# Altium footprint library CustomFootprints.PcbLib: 67 footprints (part 4 of 5)
Each footprint in its own frame and in the unit in brackets; x right, y up, seen from the top. Pads: shape width x height; smd on the part's side, far side on the other; paste and mask are expansions set on the pad; w line width, h text height; cw(c..) or ccw(c..) is an arc to the next point about the centre after c.
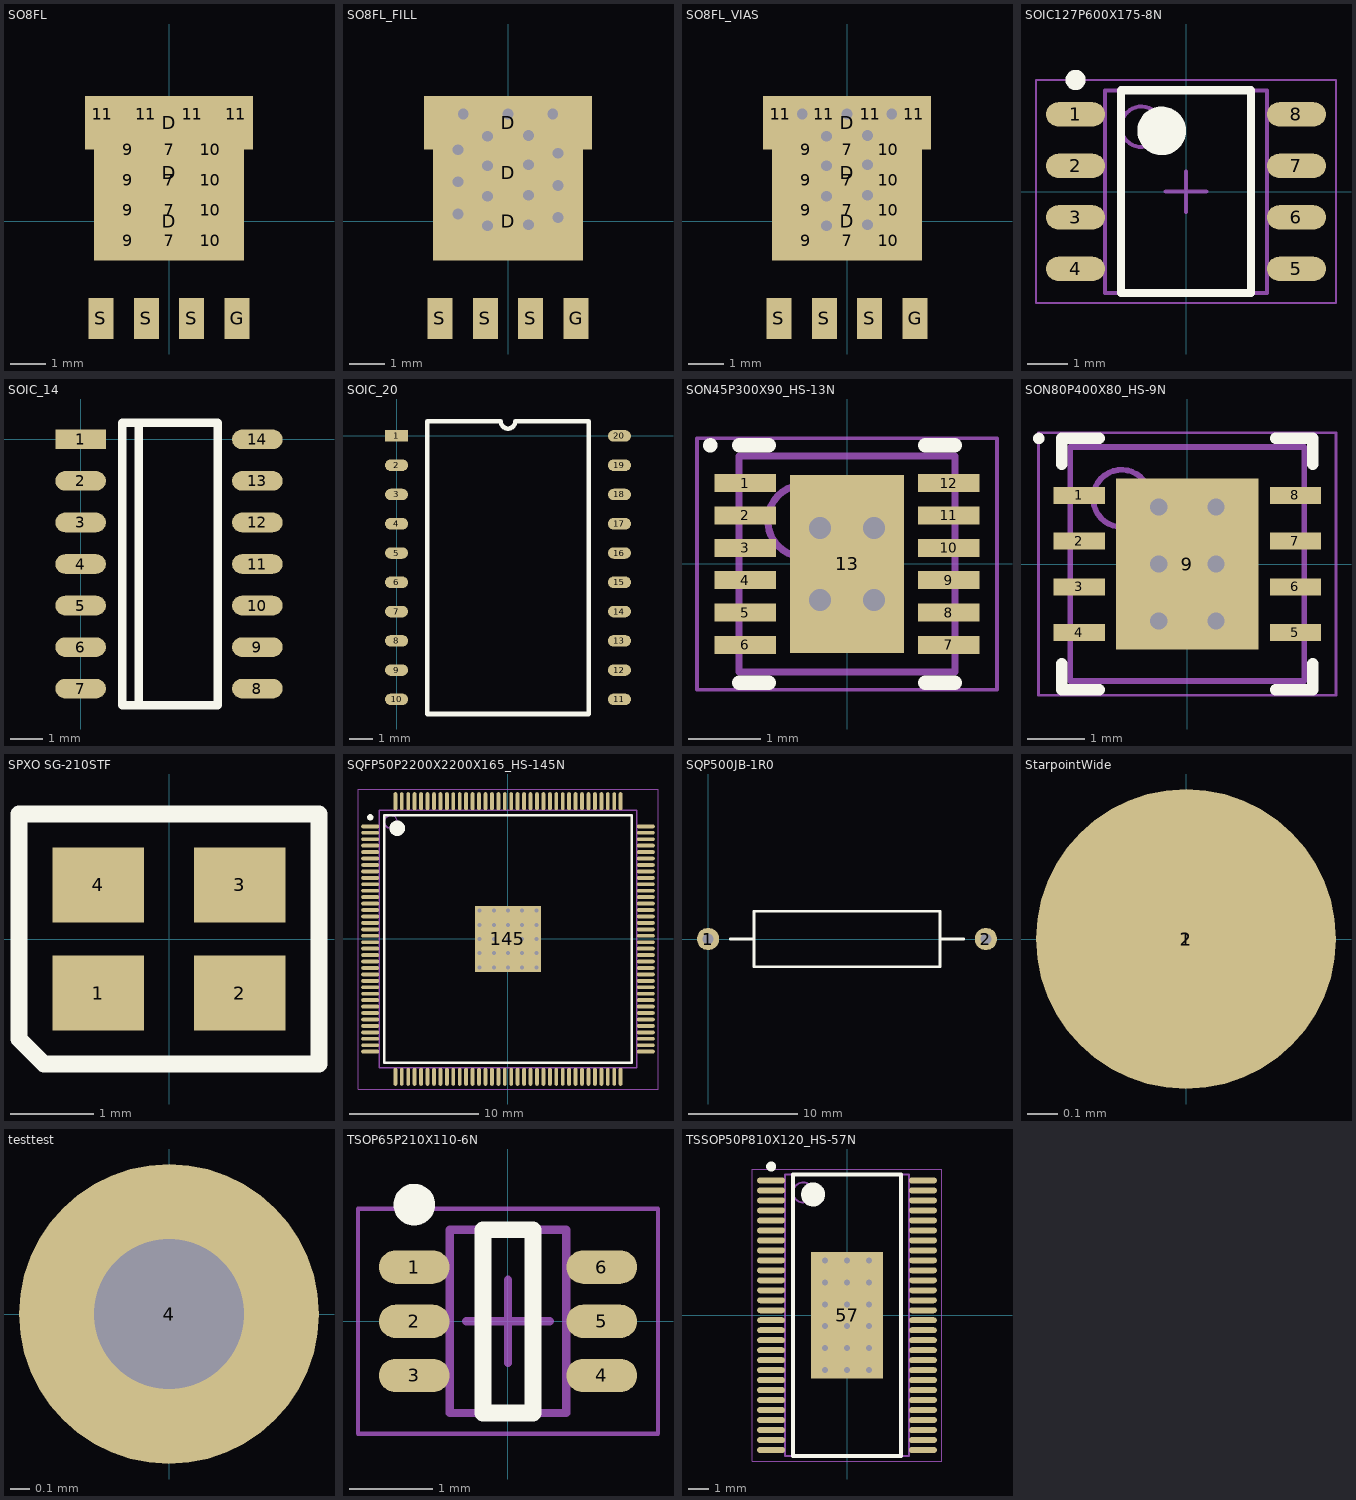
[diagram p3: the footprints below, top view; thin cyan lines are the x and y axes]

## SO8FL [mm] "DFN5 5x6, 1.27P  (SO-8FL)  CASE 488AA"
height 1
pads (23):
  rect 0.9x0.6 on Top Paste: 7(0,-0.55) 7(0,0.3) 7(0,1.15) 7(0,2) 9(-1.15,-0.55) 9(-1.15,0.3) 9(-1.15,1.15) 9(-1.15,2) 10(1.15,-0.55) 10(1.15,0.3) 10(1.15,1.15) 10(1.15,2)
  rect 0.6x0.9 on Top Paste: 11(-1.875,3) 11(-0.65,3) 11(0.65,3) 11(1.875,3)
  rect 4.2x2.2 smd paste-10 mask+0.075: D(0,0) D(0,1.35)
  rect 4.7x1.5 smd paste-10 mask+0.075: D(0,2.75)
  rect 0.7x1.15 smd paste-0.05 mask+0.075: G(1.905,-2.725) S(-1.905,-2.725) S(-0.635,-2.725) S(0.635,-2.725)
3D body "User Library-DFN5x6_SO8FL.STEP": height 1.13, standoff 0, extent -2.575,-2.95 2.575,3.2

## SO8FL_FILL [mm] "DFN5 5x6, 1.27P  (SO-8FL)  CASE 488AA. Full solder paste"
height 1
pads (7):
  rect 4.2x2.2 smd paste-10 mask+0.075: D(0,0) D(0,1.35)
  rect 4.7x1.5 smd paste-10 mask+0.075: D(0,2.75)
  rect 0.7x1.15 smd paste-0.05 mask+0.075: G(1.905,-2.725) S(-1.905,-2.725) S(-0.635,-2.725) S(0.635,-2.725)
via -0.575,1.55 diameter 0.8 hole 0.3
via 0.575,1.575 diameter 0.8 hole 0.3
via -0.575,0.7 diameter 0.8 hole 0.3
via 0.575,-0.1 diameter 0.8 hole 0.3
via -0.575,-0.125 diameter 0.8 hole 0.3
via 0.575,2.4 diameter 0.8 hole 0.3
via -0.575,2.375 diameter 0.8 hole 0.3
via -1.25,3 diameter 0.8 hole 0.3
via 0,3 diameter 0.8 hole 0.3
via 1.25,3 diameter 0.8 hole 0.3
via 0.575,0.725 diameter 0.8 hole 0.3
via 1.4,1.9 diameter 0.8 hole 0.3
via 1.4,1 diameter 0.8 hole 0.3
via 1.4,0.1 diameter 0.8 hole 0.3
via -1.4,2 diameter 0.8 hole 0.3
via -1.4,1.1 diameter 0.8 hole 0.3
via -1.4,0.2 diameter 0.8 hole 0.3
Top Paste:
  region: -2.2,2.1 -2,2.1 -2,-1 2,-1 2,2.1 2.2,2.1 2.2,3.4 -2.2,3.4
Bottom Solder:
  region: -1,-0.3 0.9,-0.3 1.4,0.2 1.4,3 -1.5,3 -1.5,1 -1.5,0.2
3D body "User Library-DFN5x6_SO8FL.STEP": height 1.13, standoff 0, extent -2.575,-2.95 2.575,3.2

## SO8FL_VIAS [mm] "DFN5 5x6, 1.27P  (SO-8FL)  CASE 488AA"
height 1
pads (23):
  rect 0.9x0.6 on Top Paste: 7(0,-0.55) 7(0,0.3) 7(0,1.15) 7(0,2) 9(-1.15,-0.55) 9(-1.15,0.3) 9(-1.15,1.15) 9(-1.15,2) 10(1.15,-0.55) 10(1.15,0.3) 10(1.15,1.15) 10(1.15,2)
  rect 0.6x0.9 on Top Paste: 11(-1.875,3) 11(-0.65,3) 11(0.65,3) 11(1.875,3)
  rect 4.2x2.2 smd paste-10 mask+0.075: D(0,0) D(0,1.35)
  rect 4.7x1.5 smd paste-10 mask+0.075: D(0,2.75)
  rect 0.7x1.15 smd paste-0.05 mask+0.075: G(1.905,-2.725) S(-1.905,-2.725) S(-0.635,-2.725) S(0.635,-2.725)
via 1.25,3 diameter 0.7 hole 0.3
via 0,3 diameter 0.7 hole 0.3
via -1.25,3 diameter 0.7 hole 0.3
via -0.575,2.375 diameter 0.7 hole 0.3
via 0.575,2.4 diameter 0.7 hole 0.3
via -0.575,-0.125 diameter 0.7 hole 0.3
via 0.575,-0.1 diameter 0.7 hole 0.3
via -0.575,0.7 diameter 0.7 hole 0.3
via 0.575,0.725 diameter 0.7 hole 0.3
via 0.575,1.575 diameter 0.7 hole 0.3
via -0.575,1.55 diameter 0.7 hole 0.3
3D body "User Library-DFN5x6_SO8FL.STEP": height 1.13, standoff 0, extent -2.575,-2.95 2.575,3.2

## SOIC127P600X175-8N [mm] "SOIC, 8-Leads, Body 4.90x3.90mm, Pitch 1.27mm, IPC Medium Density"
height 1.75
pads (8):
  oval 1.45x0.6 smd: 1(-2.725,1.905) 2(-2.725,0.635) 3(-2.725,-0.635) 4(-2.725,-1.905) 5(2.725,-1.905) 6(2.725,-0.635) 7(2.725,0.635) 8(2.725,1.905)
Top Overlay:
  circle w0.6: c-0.6,1.5 r0.3
  circle w0.25: c-2.725,2.755 r0.125
  lines w0.2: -1.6,-2.5 1.6,-2.5 1.6,2.5 -1.6,2.5 -1.6,-2.5
Mechanical 13:
  circle w0.1: c-1.1,1.6 r0.5
  lines w0.1: -2,-2.5 2,-2.5 2,2.5 -2,2.5 -2,-2.5
Mechanical 15:
  lines w0.05: -3.7,-2.75 3.7,-2.75 3.7,2.75 -3.7,2.75 -3.7,-2.75
  lines w0.1: -0.5,0 0.5,0 ; 0,-0.5 0,0.5
3D body: height 1.75, standoff 0.1, extent -2,-2.5 2,2.5

## SOIC_14 [mm]
pads (14):
  rect 1.55x0.6 smd: 1(0,0)
  oval 1.55x0.6 smd: 2(0,-1.27) 3(0,-2.54) 4(0,-3.81) 5(0,-5.08) 6(0,-6.35) 7(0,-7.62) 8(5.4,-7.62) 9(5.4,-6.35) 10(5.4,-5.08) 11(5.4,-3.81) 12(5.4,-2.54) 13(5.4,-1.27) 14(5.4,0)
Top Overlay:
  lines w0.254: 2.032,-8.128 1.27,-8.128 1.27,0.508 1.778,0.508 ; 1.778,0.508 4.191,0.508 4.191,-8.128 1.778,-8.128 1.778,0.508

## SOIC_20 [mm]
pads (20):
  rect 1x0.5 smd: 1(0,0)
  oval 1x0.5 smd: 2(0,-1.27) 3(0,-2.54) 4(0,-3.81) 5(0,-5.08) 6(0,-6.35) 7(0,-7.62) 8(0,-8.89) 9(0,-10.16) 10(0,-11.43) 11(9.672,-11.43) 12(9.672,-10.16) 13(9.672,-8.89) 14(9.672,-7.62) 15(9.672,-6.35) 16(9.672,-5.08) 17(9.672,-3.81) 18(9.672,-2.54) 19(9.672,-1.27) 20(9.672,0)
Top Overlay:
  lines w0.2: 1.335,-12.065 1.335,0.635 4.518,0.635 ccw(c4.836,0.635) 5.153,0.635 8.337,0.635 8.337,-12.065 1.335,-12.065

## SON45P300X90_HS-13N [mm] "SON, 12-Leads, Body 3.00x3.00mm, Pitch 0.45mm, Thermal Pad 2.48x1.58mm, IPC Medium Density"
height 0.9
pads (13):
  rect 0.85x0.25 smd mask+0: 1(-1.415,1.125) 2(-1.415,0.675) 3(-1.415,0.225) 4(-1.415,-0.225) 5(-1.415,-0.675) 6(-1.415,-1.125) 7(1.415,-1.125) 8(1.415,-0.675) 9(1.415,-0.225) 10(1.415,0.225) 11(1.415,0.675) 12(1.415,1.125)
  rect 1.58x2.48 smd paste-0.79 mask+0: 13(0,0)
via -0.375,0.5 diameter 0.6 hole 0.3
via 0.375,-0.5 diameter 0.6 hole 0.3
via -0.375,-0.5 diameter 0.6 hole 0.3
via 0.375,0.5 diameter 0.6 hole 0.3
Top Overlay:
  circle w0.1: c-1.9,1.65 r0.05
  lines w0.2: -1.5,-1.65 -1.09,-1.65 ; -1.5,1.65 -1.09,1.65 ; 1.09,-1.65 1.5,-1.65 ; 1.09,1.65 1.5,1.65
Top Paste:
  rectangle: -0.625,-1.225 0.625,1.225
Mechanical 13:
  circle w0.1: c-0.6,0.6 r0.5
  lines w0.1: -1.5,-1.5 1.5,-1.5 1.5,1.5 -1.5,1.5 -1.5,-1.5
Mechanical 15:
  lines w0.05: -2.085,-1.75 2.085,-1.75 2.085,1.75 -2.085,1.75 -2.085,-1.75
  lines w0.1: -0.5,0 0.5,0 ; 0,-0.5 0,0.5
3D body: height 0.9, standoff 0, extent -1.5,-1.5 1.5,1.5

## SON80P400X80_HS-9N [mm] "SON, 8-Leads, Body 4.00x4.00mm, Pitch 0.80mm, Thermal Pad 3.00x2.49mm, IPC Medium Density"
height 0.8
pads (9):
  rect 0.9x0.3 smd mask+0: 1(-1.895,1.2) 2(-1.895,0.4) 3(-1.895,-0.4) 4(-1.895,-1.2) 5(1.895,-1.2) 6(1.895,-0.4) 7(1.895,0.4) 8(1.895,1.2)
  rect 2.49x3 smd paste-1.245 mask+0: 9(0,0)
via 0.5,1 diameter 0.7 hole 0.3
via -0.5,1 diameter 0.7 hole 0.3
via -0.5,0 diameter 0.7 hole 0.3
via 0.5,0 diameter 0.7 hole 0.3
via 0.5,-1 diameter 0.7 hole 0.3
via -0.5,-1 diameter 0.7 hole 0.3
Top Overlay:
  circle w0.1: c-2.6,2.2 r0.05
  lines w0.2: -2.2,-1.75 -2.2,-2.2 -1.545,-2.2 ; -2.2,1.75 -2.2,2.2 -1.545,2.2 ; 1.545,-2.2 2.2,-2.2 2.2,-1.75 ; 1.545,2.2 2.2,2.2 2.2,1.75
Top Paste:
  rectangle: -1.15,0.1 -0.1,1.4
  rectangle: -1.15,-1.4 -0.1,-0.1
  rectangle: 0.1,0.1 1.15,1.4
  rectangle: 0.1,-1.4 1.15,-0.1
Mechanical 13:
  circle w0.1: c-1.15,1.15 r0.5
  lines w0.1: -2.05,-2.05 -2.05,2.05 2.05,2.05 2.05,-2.05 -2.05,-2.05
Mechanical 15:
  lines w0.05: -2.605,-2.3 -2.605,2.3 2.605,2.3 2.605,-2.3 -2.605,-2.3
  lines w0.1: -0.5,0 0.5,0 ; 0,-0.5 0,0.5
3D body: height 0.8, standoff 0, extent -2.05,-2.05 2.05,2.05

## SPXO SG-210STF [mm] "SPXO SG-210STF"
height 0.8
pads (4):
  rect 1.1x0.9 smd: 1(-0.85,-0.65) 2(0.85,-0.65) 3(0.85,0.65) 4(-0.85,0.65)
Top Overlay:
  lines w0.2: -1.8,-1.2 -1.5,-1.5 1.8,-1.5 1.8,1.5 -1.8,1.5 -1.8,-1.2

## SQFP50P2200X2200X165_HS-145N [mm] "SQFP, 144-Leads, Body 20.00x20.00mm, Pitch 0.50mm, Thermal Pad 5.15x5.15mm, IPC Medium Density"
height 1.65
pads (145):
  oval 1.4x0.3 smd: 1(-10.7,8.75) 2(-10.7,8.25) 3(-10.7,7.75) 4(-10.7,7.25) 5(-10.7,6.75) 6(-10.7,6.25) 7(-10.7,5.75) 8(-10.7,5.25) 9(-10.7,4.75) 10(-10.7,4.25) 11(-10.7,3.75) 12(-10.7,3.25) 13(-10.7,2.75) 14(-10.7,2.25) 15(-10.7,1.75) 16(-10.7,1.25) 17(-10.7,0.75) 18(-10.7,0.25) 19(-10.7,-0.25) 20(-10.7,-0.75) 21(-10.7,-1.25) 22(-10.7,-1.75) 23(-10.7,-2.25) 24(-10.7,-2.75) 25(-10.7,-3.25) 26(-10.7,-3.75) 27(-10.7,-4.25) 28(-10.7,-4.75) 29(-10.7,-5.25) 30(-10.7,-5.75) 31(-10.7,-6.25) 32(-10.7,-6.75) 33(-10.7,-7.25) 34(-10.7,-7.75) 35(-10.7,-8.25) 36(-10.7,-8.75) 73(10.7,-8.75) 74(10.7,-8.25) 75(10.7,-7.75) 76(10.7,-7.25) 77(10.7,-6.75) 78(10.7,-6.25) 79(10.7,-5.75) 80(10.7,-5.25) 81(10.7,-4.75) 82(10.7,-4.25) 83(10.7,-3.75) 84(10.7,-3.25) 85(10.7,-2.75) 86(10.7,-2.25) 87(10.7,-1.75) 88(10.7,-1.25) 89(10.7,-0.75) 90(10.7,-0.25) 91(10.7,0.25) 92(10.7,0.75) 93(10.7,1.25) 94(10.7,1.75) 95(10.7,2.25) 96(10.7,2.75) 97(10.7,3.25) 98(10.7,3.75) 99(10.7,4.25) 100(10.7,4.75) 101(10.7,5.25) 102(10.7,5.75) 103(10.7,6.25) 104(10.7,6.75) 105(10.7,7.25) 106(10.7,7.75) 107(10.7,8.25) 108(10.7,8.75)
  oval 0.3x1.4 smd: 37(-8.75,-10.7) 38(-8.25,-10.7) 39(-7.75,-10.7) 40(-7.25,-10.7) 41(-6.75,-10.7) 42(-6.25,-10.7) 43(-5.75,-10.7) 44(-5.25,-10.7) 45(-4.75,-10.7) 46(-4.25,-10.7) 47(-3.75,-10.7) 48(-3.25,-10.7) 49(-2.75,-10.7) 50(-2.25,-10.7) 51(-1.75,-10.7) 52(-1.25,-10.7) 53(-0.75,-10.7) 54(-0.25,-10.7) 55(0.25,-10.7) 56(0.75,-10.7) 57(1.25,-10.7) 58(1.75,-10.7) 59(2.25,-10.7) 60(2.75,-10.7) 61(3.25,-10.7) 62(3.75,-10.7) 63(4.25,-10.7) 64(4.75,-10.7) 65(5.25,-10.7) 66(5.75,-10.7) 67(6.25,-10.7) 68(6.75,-10.7) 69(7.25,-10.7) 70(7.75,-10.7) 71(8.25,-10.7) 72(8.75,-10.7) 109(8.75,10.7) 110(8.25,10.7) 111(7.75,10.7) 112(7.25,10.7) 113(6.75,10.7) 114(6.25,10.7) 115(5.75,10.7) 116(5.25,10.7) 117(4.75,10.7) 118(4.25,10.7) 119(3.75,10.7) 120(3.25,10.7) 121(2.75,10.7) 122(2.25,10.7) 123(1.75,10.7) 124(1.25,10.7) 125(0.75,10.7) 126(0.25,10.7) 127(-0.25,10.7) 128(-0.75,10.7) 129(-1.25,10.7) 130(-1.75,10.7) 131(-2.25,10.7) 132(-2.75,10.7) 133(-3.25,10.7) 134(-3.75,10.7) 135(-4.25,10.7) 136(-4.75,10.7) 137(-5.25,10.7) 138(-5.75,10.7) 139(-6.25,10.7) 140(-6.75,10.7) 141(-7.25,10.7) 142(-7.75,10.7) 143(-8.25,10.7) 144(-8.75,10.7)
  rect 5.15x5.15 smd: 145(0,0)
via 2.2,-2.2 diameter 0.7 hole 0.3
via 1.1,-2.2 diameter 0.7 hole 0.3
via 0,-2.2 diameter 0.7 hole 0.3
via -1.1,-2.2 diameter 0.7 hole 0.3
via -2.2,-2.2 diameter 0.7 hole 0.3
via 2.2,-1.1 diameter 0.7 hole 0.3
via 1.1,-1.1 diameter 0.7 hole 0.3
via 0,-1.1 diameter 0.7 hole 0.3
via -1.1,-1.1 diameter 0.7 hole 0.3
via -2.2,-1.1 diameter 0.7 hole 0.3
via 2.2,0 diameter 0.7 hole 0.3
via 1.1,0 diameter 0.7 hole 0.3
via 0,0 diameter 0.7 hole 0.3
via -1.1,0 diameter 0.7 hole 0.3
via -2.2,0 diameter 0.7 hole 0.3
via 2.2,1.1 diameter 0.7 hole 0.3
via 1.1,1.1 diameter 0.7 hole 0.3
via 0,1.1 diameter 0.7 hole 0.3
via -1.1,1.1 diameter 0.7 hole 0.3
via -2.2,1.1 diameter 0.7 hole 0.3
via 2.2,2.2 diameter 0.7 hole 0.3
via 1.1,2.2 diameter 0.7 hole 0.3
via 0,2.2 diameter 0.7 hole 0.3
via -1.1,2.2 diameter 0.7 hole 0.3
via -2.2,2.2 diameter 0.7 hole 0.3
Top Overlay:
  circle w0.6: c-8.6,8.6 r0.3
  circle w0.25: c-10.7,9.45 r0.125
  lines w0.2: -9.6,-9.6 9.6,-9.6 9.6,9.6 -9.6,9.6 -9.6,-9.6
Mechanical 13:
  circle w0.1: c-9.1,9.1 r0.5
  lines w0.1: -10,-10 10,-10 10,10 -10,10 -10,-10
Mechanical 15:
  lines w0.05: -11.65,-11.65 11.65,-11.65 11.65,11.65 -11.65,11.65 -11.65,-11.65
  lines w0.1: -0.5,0 0.5,0 ; 0,-0.5 0,0.5
3D body: height 1.65, standoff 0.05, extent -10,-10 10,10

## SQP500JB-1R0 [mil]
pads (2):
  round 80 hole 40: 1(0,0) 2(1000,0)
Top Overlay:
  lines w10: 80,0 165,0 ; 835,0 920,0 ; 165,0 165,100 835,100 835,-100 165,-100 165,0
3D body "YAG_SQP500.step": height 413, standoff -110, extent -95.35,-206.31 1138.66,206.69

## SQP500JB-1R0_footprint [mm]

## StarpointWide [mm] "Wide star point meant for connecting ground planes"
pads (2):
  round 1 smd paste-1.5 mask-1.5: 1(0,0) 2(0,0)

## testtest [mil]
pads (1):
  round 60 hole 30: 4(0,0)
3D body "XL4015-StepDown-DC-DC-5A-CC-CV-v1.step": height 608.26, standoff -106.3, extent 0,0 2007.88,1023.62

## TSOP65P210X110-6N [mm] "TSOP, 6-Leads, Body 2.00x1.25mm, Pitch 0.65mm, IPC Medium Density"
height 1.1
pads (6):
  oval 0.85x0.4 smd: 1(-1.125,0.65) 2(-1.125,0) 3(-1.125,-0.65) 4(1.125,-0.65) 5(1.125,0) 6(1.125,0.65)
Top Overlay:
  circle w0.25: c-1.125,1.4 r0.125
  lines w0.2: -0.3,-1.1 -0.3,1.1 0.3,1.1 0.3,-1.1 -0.3,-1.1
Mechanical 13:
  lines w0.1: -0.7,-1.1 -0.7,1.1 0.7,1.1 0.7,-1.1 -0.7,-1.1
Mechanical 15:
  lines w0.05: -1.8,-1.35 -1.8,1.35 1.8,1.35 1.8,-1.35 -1.8,-1.35
  lines w0.1: -0.5,0 0.5,0 ; 0,-0.5 0,0.5
3D body: height 1.1, standoff 0, extent -0.7,-1.1 0.7,1.1

## TSSOP50P810X120_HS-57N [mm] "TSSOP, 56-Leads, Body 14.00x6.10mm, Pitch 0.50mm, Thermal Pad 6.35x3.61mm, IPC Medium Density"
height 1.2
pads (57):
  oval 1.4x0.3 smd: 1(-3.8,6.75) 2(-3.8,6.25) 3(-3.8,5.75) 4(-3.8,5.25) 5(-3.8,4.75) 6(-3.8,4.25) 7(-3.8,3.75) 8(-3.8,3.25) 9(-3.8,2.75) 10(-3.8,2.25) 11(-3.8,1.75) 12(-3.8,1.25) 13(-3.8,0.75) 14(-3.8,0.25) 15(-3.8,-0.25) 16(-3.8,-0.75) 17(-3.8,-1.25) 18(-3.8,-1.75) 19(-3.8,-2.25) 20(-3.8,-2.75) 21(-3.8,-3.25) 22(-3.8,-3.75) 23(-3.8,-4.25) 24(-3.8,-4.75) 25(-3.8,-5.25) 26(-3.8,-5.75) 27(-3.8,-6.25) 28(-3.8,-6.75) 29(3.8,-6.75) 30(3.8,-6.25) 31(3.8,-5.75) 32(3.8,-5.25) 33(3.8,-4.75) 34(3.8,-4.25) 35(3.8,-3.75) 36(3.8,-3.25) 37(3.8,-2.75) 38(3.8,-2.25) 39(3.8,-1.75) 40(3.8,-1.25) 41(3.8,-0.75) 42(3.8,-0.25) 43(3.8,0.25) 44(3.8,0.75) 45(3.8,1.25) 46(3.8,1.75) 47(3.8,2.25) 48(3.8,2.75) 49(3.8,3.25) 50(3.8,3.75) 51(3.8,4.25) 52(3.8,4.75) 53(3.8,5.25) 54(3.8,5.75) 55(3.8,6.25) 56(3.8,6.75)
  rect 3.61x6.35 smd: 57(0,0)
via 1.1,-2.75 diameter 0.7 hole 0.3
via 0,-2.75 diameter 0.7 hole 0.3
via -1.1,-2.75 diameter 0.7 hole 0.3
via 1.1,-1.65 diameter 0.7 hole 0.3
via 0,-1.65 diameter 0.7 hole 0.3
via -1.1,-1.65 diameter 0.7 hole 0.3
via 1.1,-0.55 diameter 0.7 hole 0.3
via 0,-0.55 diameter 0.7 hole 0.3
via -1.1,-0.55 diameter 0.7 hole 0.3
via 1.1,0.55 diameter 0.7 hole 0.3
via 0,0.55 diameter 0.7 hole 0.3
via -1.1,0.55 diameter 0.7 hole 0.3
via 1.1,1.65 diameter 0.7 hole 0.3
via 0,1.65 diameter 0.7 hole 0.3
via -1.1,1.65 diameter 0.7 hole 0.3
via 1.1,2.75 diameter 0.7 hole 0.3
via 0,2.75 diameter 0.7 hole 0.3
via -1.1,2.75 diameter 0.7 hole 0.3
Top Overlay:
  circle w0.6: c-1.7,6.05 r0.3
  circle w0.25: c-3.8,7.45 r0.125
  lines w0.2: -2.7,-7.05 2.7,-7.05 2.7,7.05 -2.7,7.05 -2.7,-7.05
Mechanical 13:
  circle w0.1: c-2.2,6.15 r0.5
  lines w0.1: -3.1,-7.05 3.1,-7.05 3.1,7.05 -3.1,7.05 -3.1,-7.05
Mechanical 15:
  lines w0.05: -4.75,-7.3 4.75,-7.3 4.75,7.3 -4.75,7.3 -4.75,-7.3
  lines w0.1: -0.5,0 0.5,0 ; 0,-0.5 0,0.5
3D body: height 1.2, standoff 0.05, extent -3.1,-7.05 3.1,7.05